# Altium footprint library led.PcbLib: 35 footprints (part 1 of 3)
Each footprint in its own frame and in the unit in brackets; x right, y up, seen from the top. Pads: shape width x height; smd on the part's side, far side on the other; paste and mask are expansions set on the pad; w line width, h text height; cw(c..) or ccw(c..) is an arc to the next point about the centre after c.
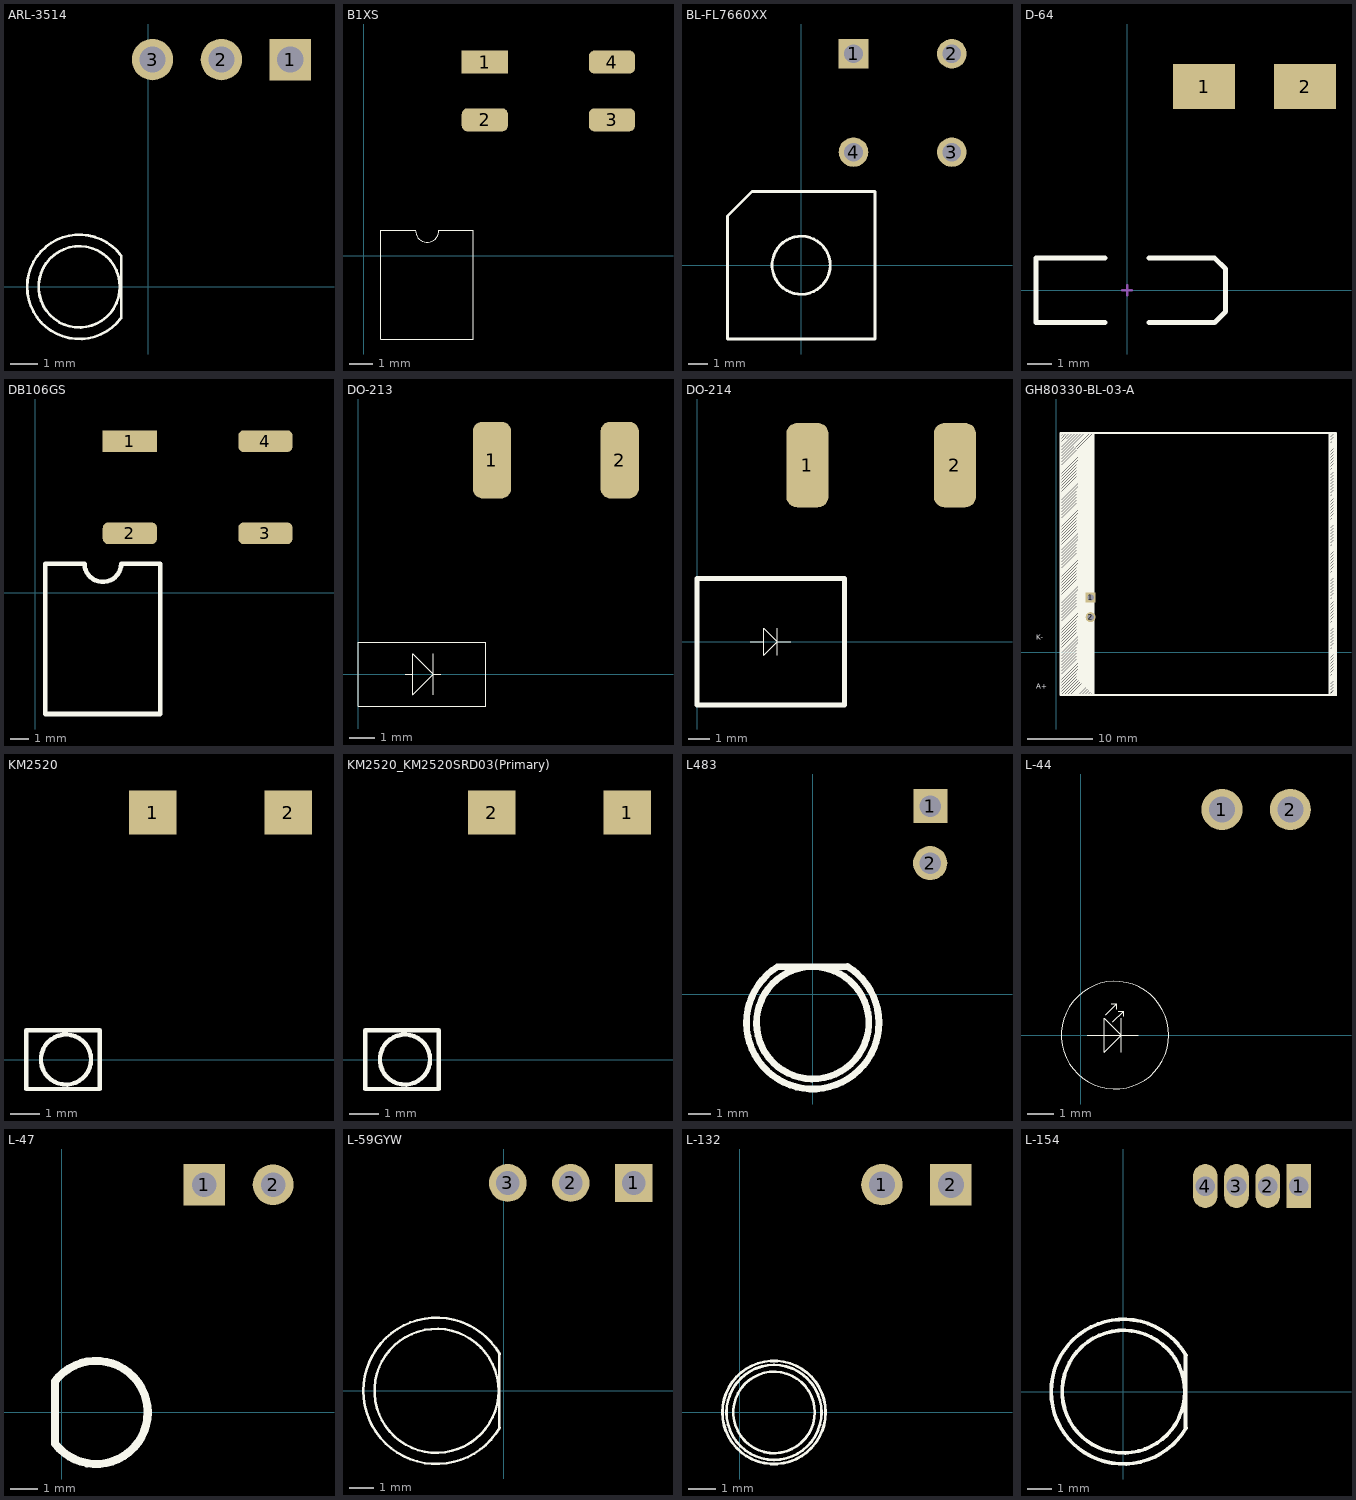
[diagram p0: the footprints below, top view; thin cyan lines are the x and y axes]

## ARL-3514 [mil]
pads (3):
  rect 60x60 hole 38: 1(206.44,330.06)
  round 60 hole 38: 2(106.44,330.06) 3(6.44,330.06)
Top Overlay:
  circle w3.94: c-100,0 r59.06
  lines w3.94: -39.39,-45.5 cw(c-100,0) -39.39,45.5 ; -38.98,-44.29 -38.98,44.29

## B1XS [mm]
pads (4):
  rect 2x1 smd: 1(5.244,8.384)
  rrect50% 2x1 smd: 2(5.244,5.884) 3(10.744,5.884) 4(10.744,8.384)
Top Overlay:
  lines w0.025: 0.75,-3.6 0.75,1.1 2.242,1.1 ccw(c2.75,1.1) 3.258,1.1 4.75,1.1 4.75,-3.6 0.75,-3.6

## BL-FL7660XX [mil]
pads (4):
  rect 60x60 hole 38: 1(106.44,430.06)
  round 60 hole 38: 2(306.44,430.06) 3(306.44,230.06) 4(106.44,230.06)
Top Overlay:
  circle w5.91: c0,0 r59.06
  lines w5.91: -150,-150 -150,100 -100,150 150,150 150,-150 -150,-150

## D-64 [mm]
pads (2):
  rect 2.55x1.85 smd: 1(3.169,8.384) 2(7.319,8.384)
Top Overlay:
  lines w0.2: -0.9,-1.325 -3.75,-1.325 -3.75,1.325 -0.9,1.325 ; 0.9,-1.325 3.6,-1.325 4.05,-0.875 4.05,0.875 3.6,1.325 0.9,1.325
Mechanical 1:
  lines w0.1: -0.2,0 0.2,0 ; 0,-0.2 0,0.2

## DB106GS [mm]
pads (4):
  rect 3x1.2 smd: 1(5.244,8.384)
  rrect50% 3x1.2 smd: 2(5.244,3.284) 3(12.744,3.284) 4(12.744,8.384)
Top Overlay:
  lines w0.254: 0.575,-6.71 6.925,-6.71 6.925,1.61 4.766,1.61 cw(c3.75,1.61) 2.734,1.61 0.575,1.61 0.575,-6.71

## DO-213 [mm]
pads (2):
  rrect50% 1.5x3 smd: 1(5.244,8.384) 2(10.244,8.384)
Top Overlay:
  lines w0.025: 1.84,0 2.14,0 ; 2.94,-0.8 2.94,0.8 ; 3.24,0 2.94,0 ; 2.14,0 2.14,0.8 2.94,0 ; 2.14,0 2.14,-0.8 2.94,0 ; 0,-1.25 0,1.25 5,1.25 5,-1.25 0,-1.25

## DO-214 [mm]
pads (2):
  rrect50% 2x4 smd: 1(5.244,8.384) 2(12.244,8.384)
Top Overlay:
  lines w0.025: 2.54,0 3.175,0 ; 3.81,-0.635 3.81,0.635 ; 4.445,0 3.81,0 ; 3.81,0 3.175,-0.635 3.175,0.635 3.81,0
  lines w0.254: 0,-3 7,-3 7,3 0,3 0,-3

## GH80330-BL-03-A [mil]
pads (2):
  rect 60x60 hole 38: 1(206.44,330.06)
  round 60 hole 38: 2(206.44,211.95)
Top Overlay:
  drawing of 204 lines, arcs and shapes, not listed
  text "K-" at -121.48,77.19 h31.08
  text "A+" at -121.48,-216.61 h31.08

## KM2520 [mm]
pads (2):
  rect 1.6x1.5 smd: 1(5.244,8.384) 2(9.844,8.384)
Top Overlay:
  circle w0.15: c2.3,0 r0.85
  lines w0.15: 0.95,-1 3.45,-1 3.45,1 0.95,1 0.95,-1

## KM2520_KM2520SRD03(Primary) [mm]
pads (2):
  rect 1.6x1.5 smd: 1(9.844,8.384) 2(5.244,8.384)
Top Overlay:
  circle w0.15: c2.3,0 r0.85
  lines w0.15: 0.95,-1 0.95,1 3.45,1 3.45,-1 0.95,-1

## L483 [mil]
pads (2):
  rect 60x60 hole 38: 1(206.44,330.06)
  round 60 hole 38: 2(206.05,230.06)
Top Overlay:
  lines w11.81: -61.89,48.28 ccw(c0,-50) 61.2,48.71 ; -61.02,48.43 61.02,48.43 ; 98.32,-54.64 cw(c0,-50) 98.35,-53.95

## L-44 [mil]
pads (2):
  round 60 hole 38: 1(206.44,330.06) 2(306.44,330.06)
Top Overlay:
  circle w1: c50,0 r78.74
  lines w1: 9.06,0 84.06,0 ; 36.61,29.92 52.36,45.67 ; 44.49,45.67 52.36,45.67 ; 46.85,19.49 62.6,35.24 ; 52.36,37.8 52.36,45.67 ; 54.72,35.24 62.6,35.24 ; 59.06,-25 59.06,25 ; 62.6,27.36 62.6,35.24 ; 34.06,-25 59.06,0 34.06,25 34.06,-25

## L-47 [mm] "L-47"
height 4.3
pads (2):
  rect 1.524x1.524 hole 0.9: 1(5.244,8.384)
  round 1.5 hole 0.9: 2(7.784,8.384)
Top Overlay:
  lines w0.3: -0.255,1.143 -0.255,-1.145 ccw(c1.265,-0.005) -0.251,1.14

## L-59GYW [mil]
pads (3):
  rect 60x60 hole 38: 1(206.44,330.06)
  round 60 hole 38: 2(106.44,330.06) 3(6.44,330.06)
Top Overlay:
  circle w3.94: c-106.69,0 r98.43
  lines w3.94: -7.09,-59.06 -7.09,59.06 ; -6.31,-58.42 cw(c-106.69,0) -6.31,58.42

## L-132 [mil]
pads (2):
  round 60 hole 38: 1(206.44,330.06)
  rect 60x60 hole 38: 2(306.44,330.06)
Top Overlay:
  circle w3.94: c50,0 r68.9
  circle w3.94: c50,0 r74.8
  circle w3.94: c50,0 r59.06

## L-154 [mm]
pads (4):
  rect 1x1.8 hole 0.8: 1(7.149,8.384)
  oval 1x1.8 hole 0.8: 2(5.879,8.384) 3(4.609,8.384) 4(3.339,8.384)
Top Overlay:
  circle w0.15: c0,0 r2.5
  lines w0.15: 2.53,-1.5 2.53,1.5 ; 2.55,-1.484 cw(c0,0) 2.55,1.484